# Altium schematic symbol library BMS_Schematic.SchLib: 23 symbols
Pins are listed as number, name and electrical type; pins without a type are passive.

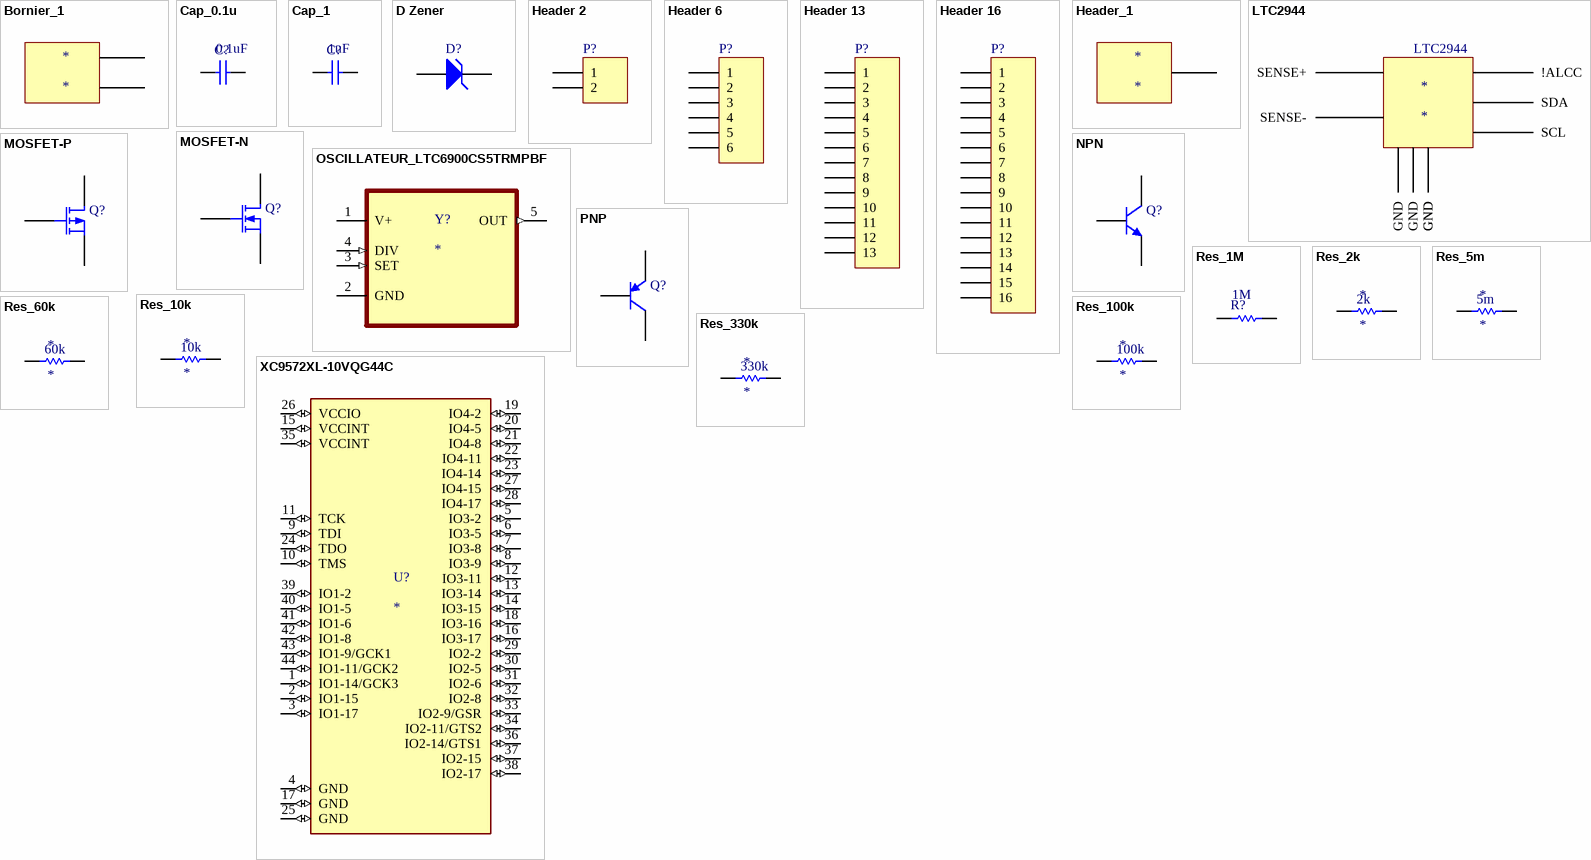
[diagram p0: symbols Bornier_1 to XC9572XL-10VQG44C]

## Bornier_1
designator *
Bornier à vis
footprint Block_2Position
pins: 1, 2

## Cap_0.1u
designator C?  value 0.1uF
Capacitor; Published: 8-Jun-2000; LatestRevisionDate: 17-Jul-2002; LatestRevisionNote: Re-released for DXP Platform.; PackageReference: RAD-0.3; Publisher: Altium Limited; PackageDescription: Radial Cap, Thru-Hole; 2 Leads; 0.3 in Pin Spacing
footprint C0805 (Chip Capacitor, Body 2.0x1.3mm, IPC High Density)
pins: 1, 2

## Cap_1
designator C?  value 1uF
Capacitor; Published: 8-Jun-2000; LatestRevisionDate: 17-Jul-2002; LatestRevisionNote: Re-released for DXP Platform.; PackageReference: RAD-0.3; Publisher: Altium Limited; PackageDescription: Radial Cap, Thru-Hole; 2 Leads; 0.3 in Pin Spacing
footprint C0805 (Chip Capacitor, Body 2.0x1.3mm, IPC High Density)
pins: 1, 2

## D Zener
designator D?
Zener Diode; Published: 8-Jun-2000; LatestRevisionDate: 17-Jul-2002; LatestRevisionNote: Re-released for DXP Platform.; PackageReference: DIODE-0.7; Publisher: Altium Limited; PackageDescription: Diode, Thru-Hole; 2 Leads; 0.7 in Pin Spacing
footprint SOT95P230X110-3N_ZENER
pins: 1 A, 3 K

## Header 2
designator P?
Header, 2-Pin; LatestRevisionDate: 17-Jul-2002; LatestRevisionNote: Re-released for DXP Platform.; Publisher: Altium Limited
footprint HDR1X2 (Connector; Header; 2 Position)
pins: 1, 2

## Header 6
designator P?
Header, 6-Pin; LatestRevisionDate: 17-Jul-2002; LatestRevisionNote: Re-released for DXP Platform.; Publisher: Altium Limited
footprint HDR1X6 (Connector; Header; 6 Position)
pins: 1, 2, 3, 4, 5, 6

## Header 13
designator P?
Header, 13-Pin; LatestRevisionDate: 17-Jul-2002; LatestRevisionNote: Re-released for DXP Platform.; Publisher: Altium Limited
footprint HDR1X13 (Connector; Header; 13 Position)
pins: 1, 2, 3, 4, 5, 6, 7, 8, 9, 10, 11, 12, 13

## Header 16
designator P?
Header, 16-Pin; LatestRevisionDate: 17-Jul-2002; LatestRevisionNote: Re-released for DXP Platform.; Publisher: Altium Limited
footprint HDR1X16 (Connector; Header; 16 Position)
pins: 1, 2, 3, 4, 5, 6, 7, 8, 9, 10, 11, 12, 13, 14, 15, 16

## Header_1
designator *
Header 1-pin
footprint PIN1 (Connector; Plug)
pins: 1

## LTC2944
designator *
Gas gauge
footprint DFN-8_DD_Gauges
pins: 1 SENSE+, 2 GND, 3 GND, 4 SCL, 5 SDA, 6 !ALCC, 7 GND, 8 SENSE-, 9 GND

## MOSFET-N
designator Q?
N-Channel MOSFET; Published: 8-Jun-2000; LatestRevisionDate: 17-Jul-2002; LatestRevisionNote: Re-released for DXP Platform.; PackageVersion: 1995/1996; PackageReference: E3; Publisher: Altium Limited; PackageDescription: TO, Flat Index; 3 In-Line, Axial Leads; Body Dia. 4.6mm; Lead Dia. 0.5 mm (max)
footprint Vishay_S17-0173-SINGLE_MFG
pins: 1 S, 2 S, 3 S, 4 G, 5 D, 6 D, 7 D, 8 D

## MOSFET-P
designator Q?
P-Channel MOSFET; Published: 8-Jun-2000; LatestRevisionDate: 17-Jul-2002; LatestRevisionNote: Re-released for DXP Platform.; PackageVersion: 1995/1996; PackageReference: E3; Publisher: Altium Limited; PackageDescription: TO, Flat Index; 3 In-Line, Axial Leads; Body Dia. 4.6mm; Lead Dia. 0.5 mm (max)
footprint Vishay_S17-0173-SINGLE_MFG
pins: 1 S, 2 S, 3 S, 4 G, 5 D, 6 D, 7 D, 8 D

## NPN
designator Q?
NPN Bipolar Transistor; Published: 8-Jun-2000; LatestRevisionDate: 17-Jul-2002; LatestRevisionNote: Re-released for DXP Platform.; PackageReference: TO-226-AA; Publisher: Altium Limited; PackageDescription: TO, Flat Index; 3 In-Line, Axial Leads; Body Dia. 4.8mm; Leads 0.55 x 0.51 mm (max); Code_JEDEC: TO-226-AA
footprint SOT95P237X111-3N_NPN
pins: 1 B, 2 E, 3 C

## OSCILLATEUR_LTC6900CS5TRMPBF
designator Y?
Low Power, 1kHz to 20MHz Resistor Set SOT-23 Oscillator; MP: LTC6900CS5TRMPBF; Package: None; Price: None; Value: *; Availability: Unavailable
footprint SOT95P280X100-5N_OSC
pins: 1 V+ (power), 2 GND, 3 SET (in), 4 DIV (in), 5 OUT (out)

## PNP
designator Q?
PNP Bipolar Transistor; Published: 8-Jun-2000; LatestRevisionDate: 29-May-2009; LatestRevisionNote: IPC-7351 Footprint Added.; PackageVersion: Aug-1999; PackageReference: SOT-23B; Publisher: Altium Limited; PackageDescription: 3-Pin SOT-23 Package 0.95 mm Pitch, 2.4 mm Lead Span
footprint SOT230P700X180-4N
pins: 1 B, 2 C, 3 E, 4 C

## Res_1M
designator R?  value 1M
Resistor; Published: 8-Jun-2000; LatestRevisionDate: 17-Jul-2002; LatestRevisionNote: Re-released for DXP Platform.; PackageReference: AXIAL-0.3; Publisher: Altium Limited; PackageDescription: Axial Device, Thru-Hole; 2 Leads; 0.3 in Pin Spacing
footprint C0805 (Chip Capacitor, Body 2.0x1.3mm, IPC High Density)
pins: 1, 2

## Res_2k
designator *
Resistor
footprint C0805 (Chip Capacitor, Body 2.0x1.3mm, IPC High Density)
pins: 1, 2
text: 2k

## Res_5m
designator *
Resistor
footprint RES_WSHM2818_VIS-M
pins: 1, 2
text: 5m

## Res_10k
designator *
Resistor
footprint C0805 (Chip Capacitor, Body 2.0x1.3mm, IPC High Density)
pins: 1, 2
text: 10k

## Res_60k
designator *
Resistor
footprint C0805 (Chip Capacitor, Body 2.0x1.3mm, IPC High Density)
pins: 1, 2
text: 60k

## Res_100k
designator *
Resistor
footprint C0805 (Chip Capacitor, Body 2.0x1.3mm, IPC High Density)
pins: 1, 2
text: 100k

## Res_330k
designator *
Resistor
footprint C0805 (Chip Capacitor, Body 2.0x1.3mm, IPC High Density)
pins: 1, 2
text: 330k

## XC9572XL-10VQG44C
designator U?
IC CPLD 72MC 10NS 44VQFP; MP: XC9572XL-10VQG44C; MF: Xilinx Inc.; Value: *; Package: VQFP-44 Xilinx; Availability: Warning; SnapEDA_Link: https://www.snapeda.com/parts/XC9572XL-10VQG44C/Xilinx%20Inc./view-part/51416/?ref=snap; Price: None; Purchase-URL: https://pricing.snapeda.com/search/part/XC9572XL-10VQG44C/?ref=eda; Check_prices: https://www.snapeda.com/parts/XC9572XL-10VQG44C/Xilinx%20Inc./view-part/51416/?ref=eda
footprint VQFP-44_CPLD (CPLD)
pins: 1 IO1-14/GCK3 (io), 2 IO1-15 (io), 3 IO1-17 (io), 4 GND (io), 5 IO3-2 (io), 6 IO3-5 (io), 7 IO3-8 (io), 8 IO3-9 (io), 9 TDI (io), 10 TMS (io), 11 TCK (io), 12 IO3-11 (io), 13 IO3-14 (io), 14 IO3-15 (io), 15 VCCINT (io), 16 IO3-17 (io), 17 GND (io), 18 IO3-16 (io), 19 IO4-2 (io), 20 IO4-5 (io), 21 IO4-8 (io), 22 IO4-11 (io), 23 IO4-14 (io), 24 TDO (io), 25 GND (io), 26 VCCIO (io), 27 IO4-15 (io), 28 IO4-17 (io), 29 IO2-2 (io), 30 IO2-5 (io), 31 IO2-6 (io), 32 IO2-8 (io), 33 IO2-9/GSR (io), 34 IO2-11/GTS2 (io), 35 VCCINT (io), 36 IO2-14/GTS1 (io), 37 IO2-15 (io), 38 IO2-17 (io), 39 IO1-2 (io), 40 IO1-5 (io), 41 IO1-6 (io), 42 IO1-8 (io), 43 IO1-9/GCK1 (io), 44 IO1-11/GCK2 (io)